# EAGLE library part SN74AVC4T245 (library Parts)
4-Bit 電圧レベル変換器 伝搬遅延時間: 2.9 ns 供給電圧 - 最大: 3.6 V 供給電圧 - 最小: 1.2 V データ レート: 380 Mb/s 動作温度範囲: - 40 C to + 85 C 出力タイプ: 3-State
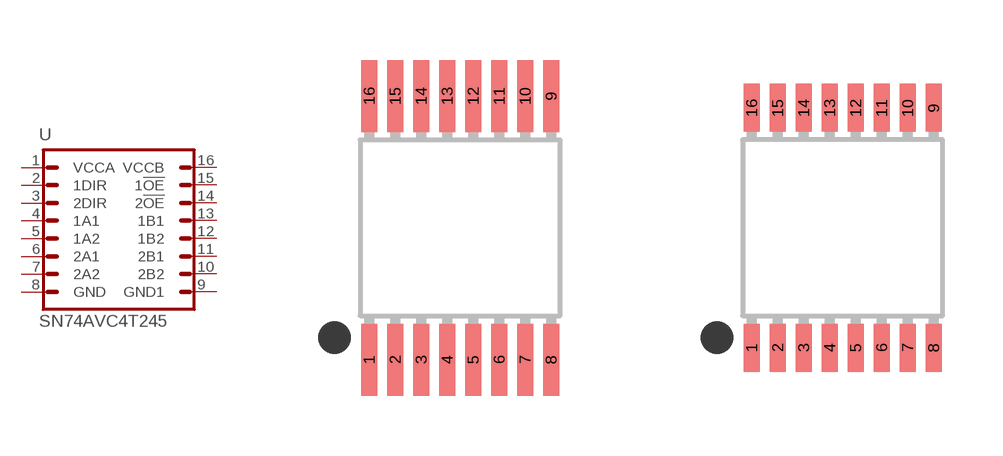
[diagram p21: symbol with the pads of TSSOP-16_DEV; footprints TSSOP-16_DEV, TSSOP-16]

Designator prefix U

## SN74AVC4T245PW_  [TSSOP-16_DEV]
1  VCCA  pas
2  1DIR
3  2DIR
4  1A1
5  1A2
6  2A1
7  2A2
8  GND  pas
9  GND1  pas
10  2B2
11  2B1
12  1B2
13  1B1
14  2!OE!
15  1!OE!
16  VCCB  pas

## SN74AVC4T245PW  [TSSOP-16]
Pads as for TSSOP-16_DEV

## Footprint TSSOP-16_DEV (pad centres in mm)
PLASTIC SMALL-OUTLINE PACKAGE PW (R-PDSO-G16) 手はんだパターン
smd 0.4 x 1.8: 1 -2.275,-3.3; 2 -1.625,-3.3; 3 -0.975,-3.3; 4 -0.325,-3.3; 5 0.325,-3.3; 6 0.975,-3.3; 7 1.625,-3.3; 8 2.275,-3.3; 9 2.275,3.3; 10 1.625,3.3; 11 0.975,3.3; 12 0.325,3.3; 13 -0.325,3.3; 14 -0.975,3.3; 15 -1.625,3.3; 16 -2.275,3.3

## Footprint TSSOP-16 (pad centres in mm)
PLASTIC SMALL-OUTLINE PACKAGE PW (R-PDSO-G16)
smd 0.4 x 1.2: 1 -2.275,-3; 2 -1.625,-3; 3 -0.975,-3; 4 -0.325,-3; 5 0.325,-3; 6 0.975,-3; 7 1.625,-3; 8 2.275,-3; 9 2.275,3; 10 1.625,3; 11 0.975,3; 12 0.325,3; 13 -0.325,3; 14 -0.975,3; 15 -1.625,3; 16 -2.275,3